# EAGLE library part PC16C (library 0PIHER)
POTENTIOMETER quad carbon potentiometer, 16 mm
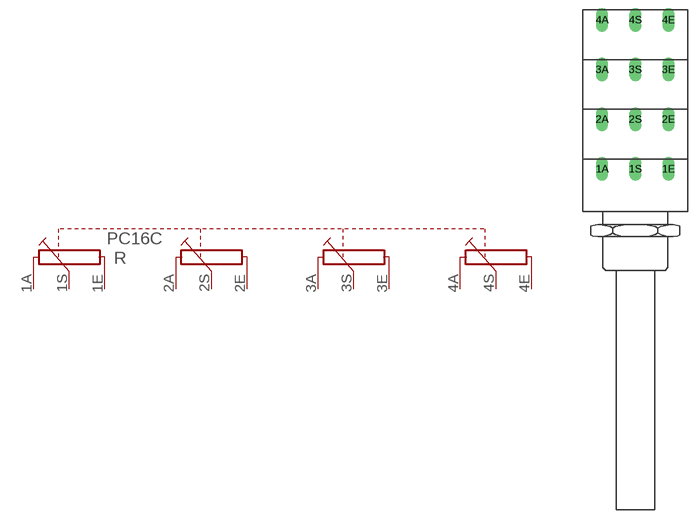
[diagram p2: symbol with the pads of PC16C; footprint PC16C]

Designator prefix R

## PC16C  [PC16C]
1A  1A  pas
1E  1E  pas
1S  1S  pas
2A  2A  pas
2E  2E  pas
2S  2S  pas
3A  3A  pas
3E  3E  pas
3S  3S  pas
4A  4A  pas
4E  4E  pas
4S  4S  pas

## Footprint PC16C (pad centres in mm)
POTENTIOMETER quad carbon potentiometer, 16 mm
drill 1.2 long: 1A -5,6.5; 1E 5,6.5; 1S 0,6.5; 2A -5,14; 2E 5,14; 2S 0,14; 3A -5,21.5; 3E 5,21.5; 3S 0,21.5; 4A -5,29; 4E 5,29; 4S 0,29